# Altium footprint library mt3608_PcbLib.PcbLib: 26 footprints (part 2 of 2)
Each footprint in its own frame and in the unit in brackets; x right, y up, seen from the top. Pads: shape width x height; smd on the part's side, far side on the other; paste and mask are expansions set on the pad; w line width, h text height; cw(c..) or ccw(c..) is an arc to the next point about the centre after c.
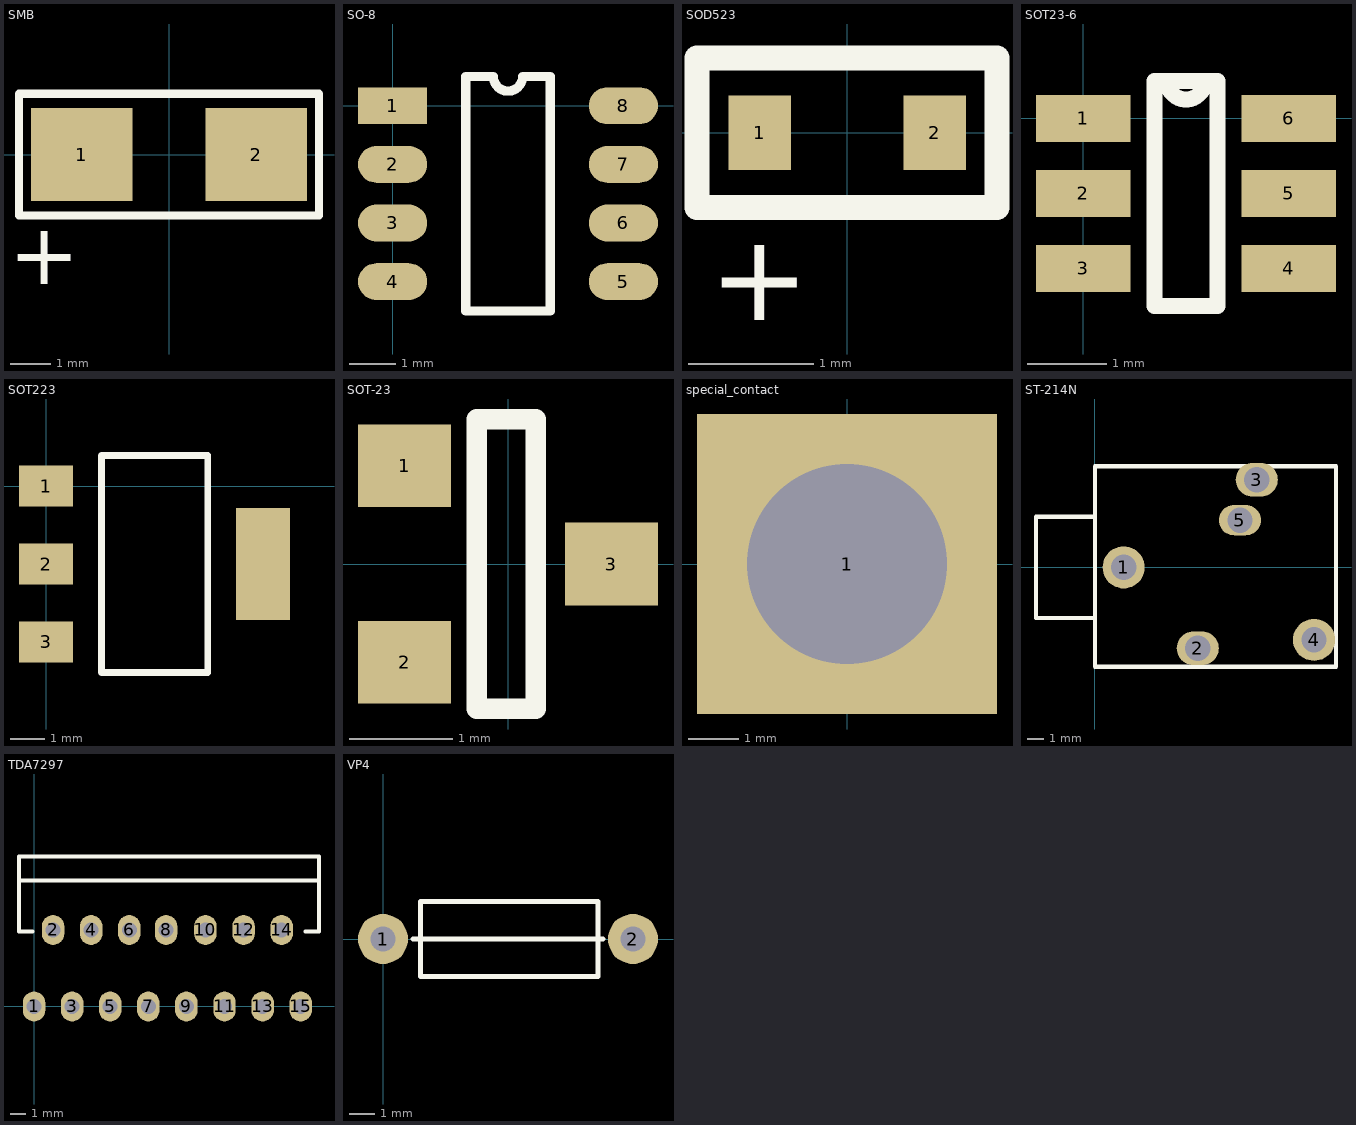
[diagram p1: the footprints below, top view; thin cyan lines are the x and y axes]

## SMB [mm]
pads (2):
  rect 2.5x2.3 smd: 1(-2.15,0) 2(2.15,0)
Top Overlay:
  lines w0.2: -3.7,-1.5 -3.7,1.5 3.7,1.5 3.7,-1.5 -3.7,-1.5
  text "+" at -2.2,-3.2 h1.52
3D body "User Library-DO-214AA SMB.step": height 2.3, standoff 0, extent -2.7,-1.8 2.7,1.8

## SO-8 [mm]
pads (8):
  rect 1.5x0.8 smd: 1(0,0)
  oval 1.5x0.8 smd: 2(0,-1.27) 3(0,-2.54) 4(0,-3.81) 5(5,-3.81) 6(5,-2.54) 7(5,-1.27) 8(5,0)
Top Overlay:
  lines w0.2: 1.585,-4.445 3.415,-4.445 3.415,0.635 2.818,0.635 cw(c2.5,0.635) 2.183,0.635 1.585,0.635 1.585,-4.445
3D body "User Library-so8-3.step": height 1.7, standoff 0, extent -0.46,-4.355 5.54,0.545

## SOD523 [mm]
pads (2):
  rect 0.5x0.6 smd: 1(-0.7,0) 2(0.7,0)
Top Overlay:
  lines w0.2: -1.2,-0.6 -1.2,0.6 1.2,0.6 1.2,-0.6 -1.2,-0.6
  text "+" at -1.1,-1.5 h0.7
3D body "User Library-SOD-523F.step": height 0.7, standoff 0, extent -0.8,-0.399 0.8,0.399

## SOT23-6 [mm]
pads (6):
  rect 1.2x0.6 smd: 1(0,0) 2(0,-0.95) 3(0,-1.9) 4(2.6,-1.9) 5(2.6,-0.95) 6(2.6,0)
Top Overlay:
  lines w0.2: 0.9,-2.375 0.9,0.475 1.538,0.475 cw(c1.3,0.475) 1.062,0.475 1.7,0.475 1.7,-2.375 0.9,-2.375
3D body "User Library-SOT23-6-2.step": height 1.45, standoff 0, extent -0.1,-2.45 2.7,0.45

## SOT223 [mm]
pads (4):
  rect 1.6x1.2 smd: 1(0,0) 2(0,-2.3) 3(0,-4.6)
  rect 1.6x3.3 smd: ""(6.4,-2.3)
Top Overlay:
  lines w0.2: 1.635,-5.5 1.635,0.9 4.765,0.9 4.765,-5.5 1.635,-5.5
3D body "ALSRobot-SOT-223.step": height 1.39, standoff -0.26, extent -0.3,-5.55 6.7,0.95

## SOT-23 [mm]
pads (3):
  rect 0.9x0.8 smd: 1(-1,0.95) 2(-1,-0.95) 3(1,0)
Top Overlay:
  lines w0.2: -0.301,-1.4 0.269,-1.4 0.269,1.4 -0.301,1.4 -0.301,-1.4
3D body "User Library-BAT54.step": height 1, standoff 0, extent -1.17,-1.46 1.17,1.46

## special_contact [mm]
pads (1):
  rect 6x6 hole 4: 1(0,0)

## ST-214N [mm] "audio jack"
pads (5):
  round 2.5 hole 1.5: 1(1.7,0) 4(13,-4.3)
  oval 2.5x2 hole 1.5: 2(6.1,-4.8) 3(9.6,5.2)
  oval 2.5x1.8 hole 1.5: 5(8.6,2.8)
Top Overlay:
  lines w0.254: 0,-3 -3.5,-3 -3.5,3 0,3 ; 0,-5.9 0,6 14.3,6 14.3,-5.9 0,-5.9
3D body "AudioJack.stp": height 6, standoff -3, extent -3.35,-5.7 14.15,5.8

## TDA7297 [mm]
pads (15):
  oval 1.5x2 hole 1: 1(0,0) 2(1.27,5.1) 3(2.54,0) 4(3.81,5.1) 5(5.08,0) 6(6.35,5.1) 7(7.62,0) 8(8.8,5.1) 9(10.16,0) 10(11.43,5.1) 11(12.7,0) 12(13.97,5.1) 13(15.24,0) 14(16.51,5.1) 15(17.78,0)
Top Overlay:
  lines w0.254: -1,8.4 19,8.4 ; -0.1,5 -1,5 -1,10 19,10 19,5 18.1,5
3D body "User Library-TDA7294-1.step": height 24.2, standoff -1.3, extent -0.8,-0.065 18.8,9.8

## VP4 [mm]
pads (2):
  round 2 hole 1: 1(0,0) 2(10,0)
Top Overlay:
  lines w0.2: 1.2,0 8.8,0 ; 1.5,-1.5 8.6,-1.5 8.6,1.5 1.5,1.5 1.5,-1.5
3D body "孪4-5.stp": height 3.5, standoff -1, extent -0.378,-1.5 10.378,1.5